# Altium footprint library SOD.PcbLib: 1 footprints
Each footprint in its own frame and in the unit in brackets; x right, y up, seen from the top. Pads: shape width x height; smd on the part's side, far side on the other; paste and mask are expansions set on the pad; w line width, h text height; cw(c..) or ccw(c..) is an arc to the next point about the centre after c.
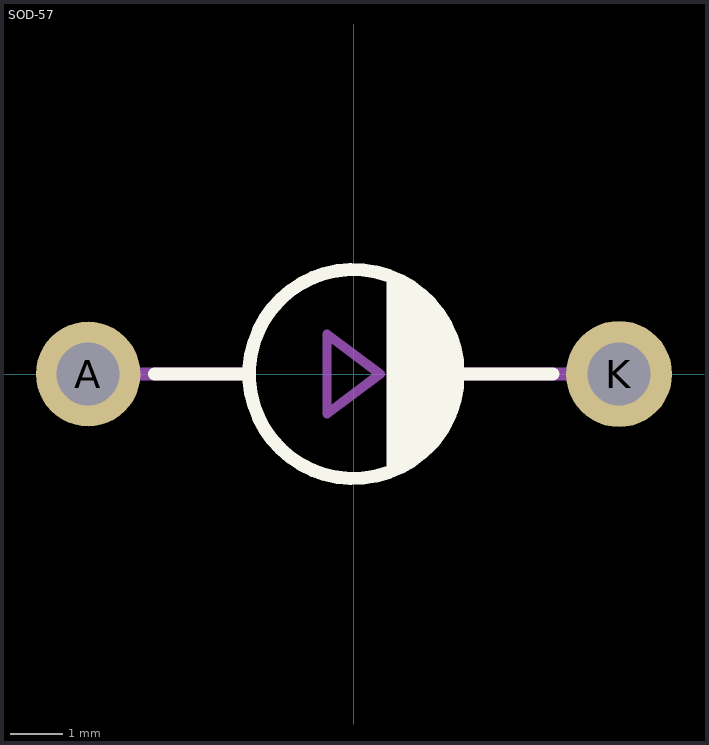
[diagram p0: the footprint, top view; thin cyan lines are the x and y axes]

## SOD-57 [mm]
pads (2):
  round 2 hole 1.2: A(-5.08,0)
  round 2.032 hole 1.2: K(5.08,0)
Top Overlay:
  circle w0.254: c0,0 r2
  region: 0.762,1.905
  region: 0.762,1.905
  region: 2.032,0
  region: 0.635,-1.905 0.798,-1.88 1.107,-1.767 1.388,-1.597 1.631,-1.374 1.825,-1.109 1.964,-0.811 2.043,-0.491 2.057,-0.163 2.032,0 2.051,0.156 2.027,0.47 1.942,0.774 1.799,1.055 1.604,1.302 1.365,1.507 1.091,1.661 0.791,1.759 0.635,1.778
  lines w0.254: -3.81,0 -2.032,0 ; 2.032,0 3.81,0
Top Assembly:
  circle w0.178: c0,0 r2
  lines w0.178: 0.762,-0.762 0.762,0.762 ; -0.508,-0.762 -0.508,0.762 0.508,0 -0.508,-0.762
  lines w0.254: -5.08,0 -2.032,0 ; 2.032,0 5.08,0
3D body "BYV28-200.STEP": height 7.25, standoff 2.75, extent -4.373,-2.286 4.627,2.214